# EAGLE library part THS1030 (library analog)
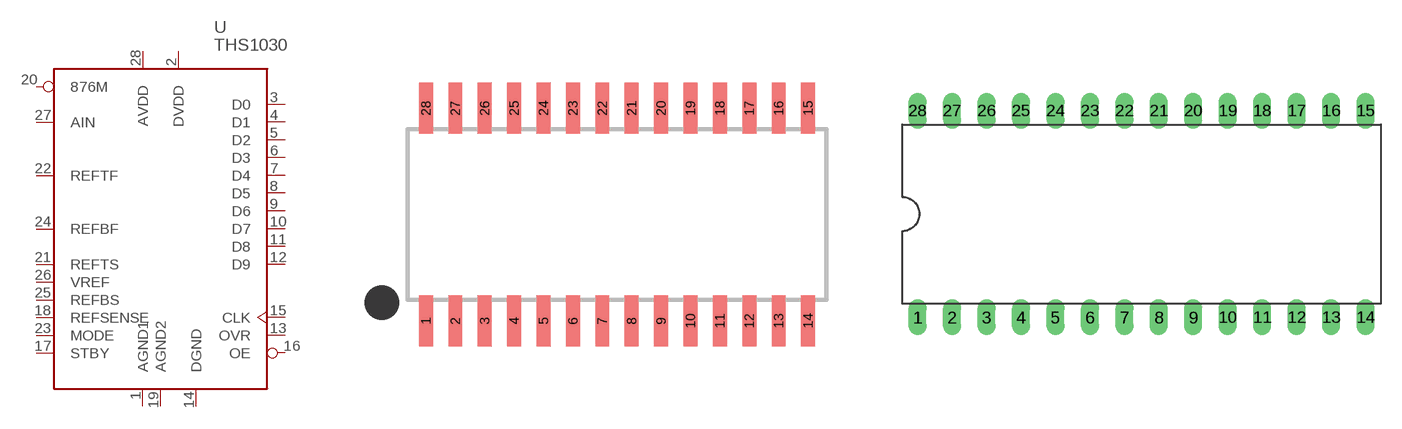
[diagram p0: symbol with the pads of SOIC28W; footprints SOIC28W, DIP28W]

Designator prefix -

## THS1030SOIC (PACKAGE: SOIC28W)  [SOIC28W]
1  AGND1
2  DVDD
3  D0
4  D1
5  D2
6  D3
7  D4
8  D5
9  D6
10  D7
11  D8
12  D9
13  OVR
14  DGND
15  CLK
16  OE
17  STBY
18  REFSENSE
19  AGND2
20  876M
21  REFTS
22  REFTF
23  MODE
24  REFBF
25  REFBS
26  VREF
27  AIN
28  AVDD

## THS1030DIP (PACKAGE: DIL28W)  [DIP28W]
Pads as for SOIC28W

## Footprint SOIC28W (pad centres in mm)
Small Outline Package wide
smd 0.6 x 2.2: 1 -8.255,-4.6; 2 -6.985,-4.6; 3 -5.715,-4.6; 4 -4.445,-4.6; 5 -3.175,-4.6; 6 -1.905,-4.6; 7 -0.635,-4.6; 8 0.635,-4.6; 9 1.905,-4.6; 10 3.175,-4.6; 11 4.445,-4.6; 12 5.715,-4.6; 13 6.985,-4.6; 14 8.255,-4.6; 15 8.255,4.6; 16 6.985,4.6; 17 5.715,4.6; 18 4.445,4.6; 19 3.175,4.6; 20 1.905,4.6; 21 0.635,4.6; 22 -0.635,4.6; 23 -1.905,4.6; 24 -3.175,4.6; 25 -4.445,4.6; 26 -5.715,4.6; 27 -6.985,4.6; 28 -8.255,4.6

## Footprint DIP28W (pad centres in mm)
Dual In Line Package 0.6 inch
drill 0.813 long: 1 -16.51,-7.62; 2 -13.97,-7.62; 3 -11.43,-7.62; 4 -8.89,-7.62; 5 -6.35,-7.62; 6 -3.81,-7.62; 7 -1.27,-7.62; 8 1.27,-7.62; 9 3.81,-7.62; 10 6.35,-7.62; 11 8.89,-7.62; 12 11.43,-7.62; 13 13.97,-7.62; 14 16.51,-7.62; 15 16.51,7.62; 16 13.97,7.62; 17 11.43,7.62; 18 8.89,7.62; 19 6.35,7.62; 20 3.81,7.62; 21 1.27,7.62; 22 -1.27,7.62; 23 -3.81,7.62; 24 -6.35,7.62; 25 -8.89,7.62; 26 -11.43,7.62; 27 -13.97,7.62; 28 -16.51,7.62